# Altium footprint library Connector_Molex.PcbLib: 815 footprints (part 41 of 51)
Each footprint in its own frame and in the unit in brackets; x right, y up, seen from the top. Pads: shape width x height; smd on the part's side, far side on the other; paste and mask are expansions set on the pad; w line width, h text height; cw(c..) or ccw(c..) is an arc to the next point about the centre after c.
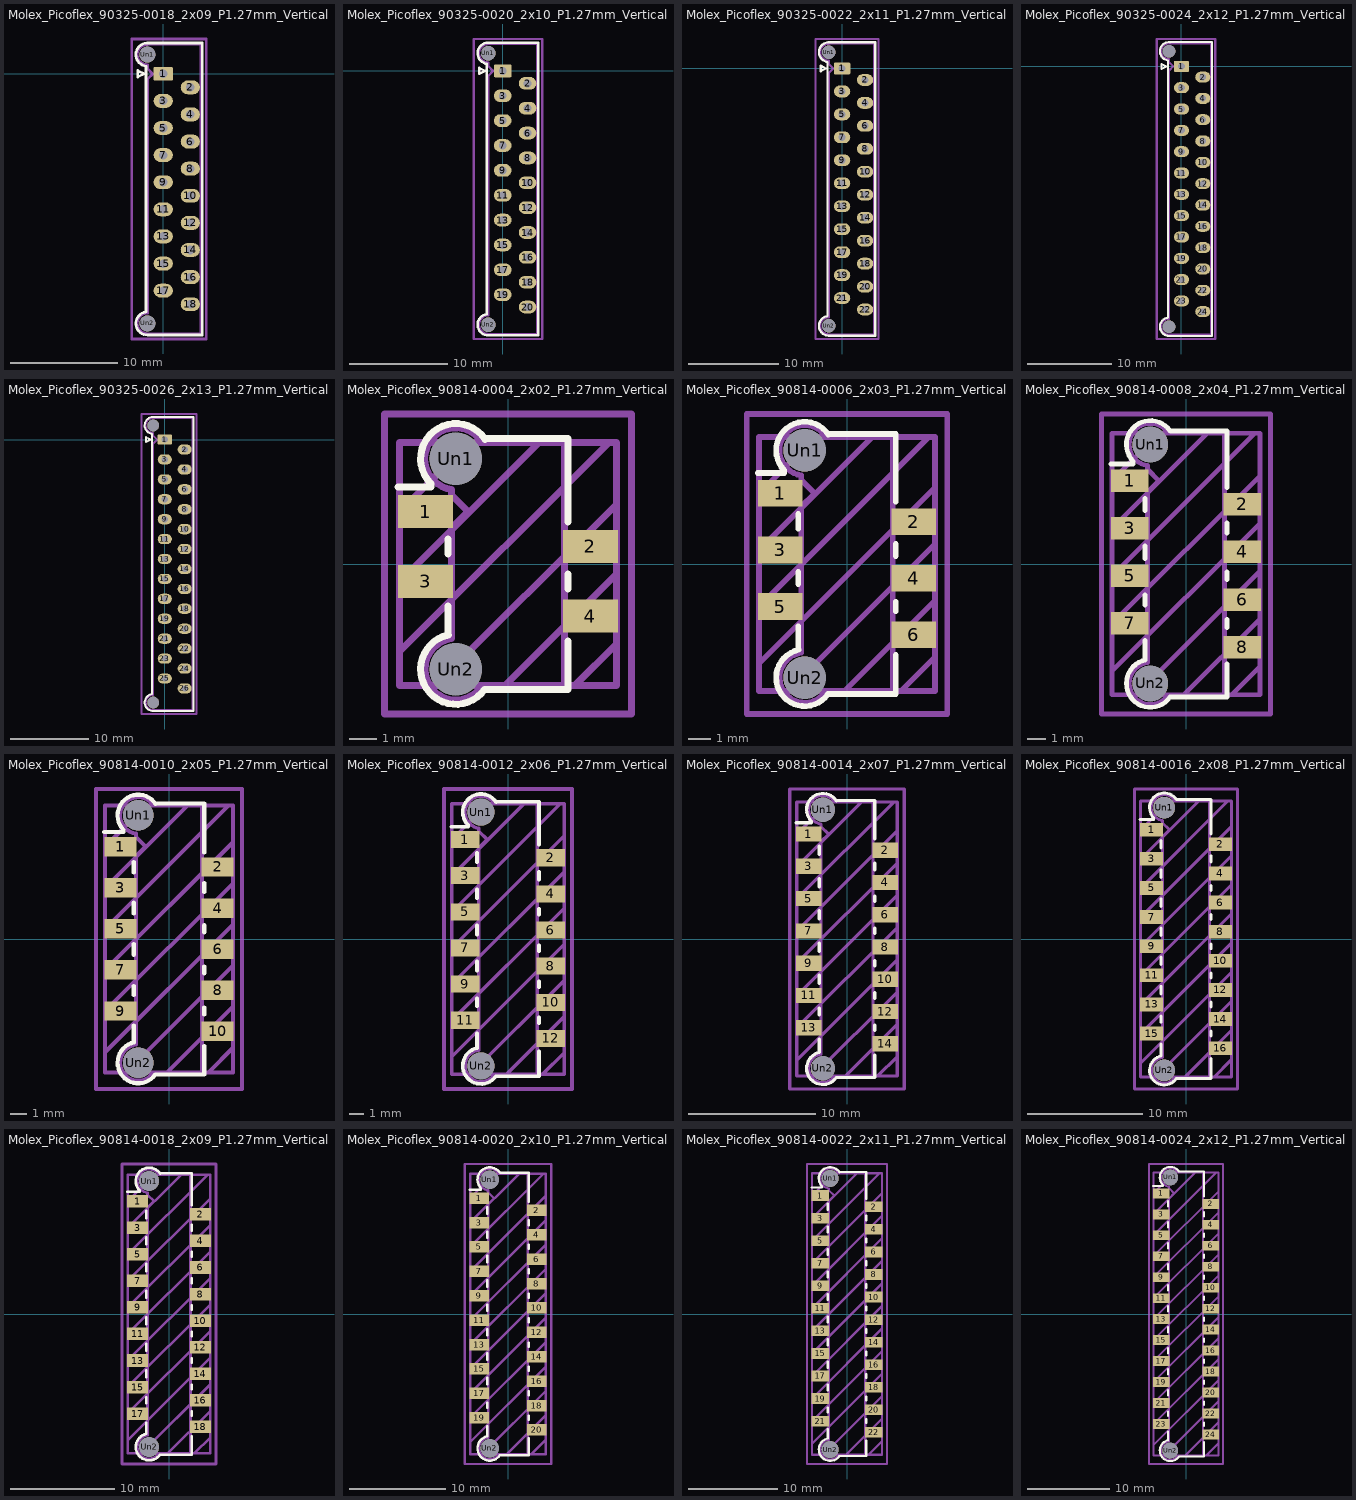
[diagram p40: the footprints below, top view; thin cyan lines are the x and y axes]

## Molex_Picoflex_90325-0018_2x09_P1.27mm_Vertical [mm]
pads (20):
  rrect19% 1.8x1.3 hole 0.8: 1(0,0)
  rrect100% 1.8x1.3 hole 0.8: 2(2.54,-1.27) 3(0,-2.54) 4(2.54,-3.81) 5(0,-5.08) 6(2.54,-6.35) 7(0,-7.62) 8(2.54,-8.89) 9(0,-10.16) 10(2.54,-11.43) 11(0,-12.7) 12(2.54,-13.97) 13(0,-15.24) 14(2.54,-16.51) 15(0,-17.78) 16(2.54,-19.05) 17(0,-20.32) 18(2.54,-21.59)
  round 1.5 hole 1.5: Un1(-1.48,1.8) Un2(-1.48,-23.39)
F.SilkS:
  lines w0.254: -1.678,-22.323 ccw(c-1.48,-23.39) -1.47,-24.475 ; -1.61,-22.305 -1.61,0.715 ; -1.61,0.72 cw(c-1.48,1.8) -1.35,2.88 ; -1.48,-24.475 3.65,-24.475 3.65,2.885 -1.48,2.885 ; -2.38,-0.3 -1.78,0 -2.38,0.3 -2.38,-0.3
Top Assembly:
  lines w0.254: -1.48,0.845 -1.48,0.5 -0.98,0 -1.48,-0.5 -1.48,-22.435 ccw(c-1.48,-23.39) -1.48,-24.345 3.52,-24.345 3.52,2.755 -1.48,2.755 ; -1.48,0.85 cw(c-1.48,1.8) -1.48,2.75
  text "'.Designator'" at -3.027,1.21 h1
Top Courtyard:
  lines w0.254: -2.94,-24.85 4.02,-24.85 4.02,3.26 -2.94,3.26 -2.94,-24.85
Top Designator:
  text ".Designator" at -6.748,-11.303 h1.52

## Molex_Picoflex_90325-0020_2x10_P1.27mm_Vertical [mm]
pads (22):
  rrect19% 1.8x1.3 hole 0.8: 1(0,0)
  rrect100% 1.8x1.3 hole 0.8: 2(2.54,-1.27) 3(0,-2.54) 4(2.54,-3.81) 5(0,-5.08) 6(2.54,-6.35) 7(0,-7.62) 8(2.54,-8.89) 9(0,-10.16) 10(2.54,-11.43) 11(0,-12.7) 12(2.54,-13.97) 13(0,-15.24) 14(2.54,-16.51) 15(0,-17.78) 16(2.54,-19.05) 17(0,-20.32) 18(2.54,-21.59) 19(0,-22.86) 20(2.54,-24.13)
  round 1.5 hole 1.5: Un1(-1.48,1.8) Un2(-1.48,-25.93)
F.SilkS:
  lines w0.254: -1.678,-24.863 ccw(c-1.48,-25.93) -1.47,-27.015 ; -1.61,-24.845 -1.61,0.715 ; -1.61,0.72 cw(c-1.48,1.8) -1.35,2.88 ; -1.48,-27.015 3.65,-27.015 3.65,2.885 -1.48,2.885 ; -2.38,-0.3 -1.78,0 -2.38,0.3 -2.38,-0.3
Top Assembly:
  lines w0.254: -1.48,0.845 -1.48,0.5 -0.98,0 -1.48,-0.5 -1.48,-24.975 ccw(c-1.48,-25.93) -1.48,-26.885 3.52,-26.885 3.52,2.755 -1.48,2.755 ; -1.48,0.85 cw(c-1.48,1.8) -1.48,2.75
  text "'.Designator'" at -3.027,1.21 h1
Top Courtyard:
  lines w0.254: -2.94,-27.39 4.02,-27.39 4.02,3.26 -2.94,3.26 -2.94,-27.39
Top Designator:
  text ".Designator" at -6.748,-12.573 h1.52

## Molex_Picoflex_90325-0022_2x11_P1.27mm_Vertical [mm]
pads (24):
  rrect19% 1.8x1.3 hole 0.8: 1(0,0)
  rrect100% 1.8x1.3 hole 0.8: 2(2.54,-1.27) 3(0,-2.54) 4(2.54,-3.81) 5(0,-5.08) 6(2.54,-6.35) 7(0,-7.62) 8(2.54,-8.89) 9(0,-10.16) 10(2.54,-11.43) 11(0,-12.7) 12(2.54,-13.97) 13(0,-15.24) 14(2.54,-16.51) 15(0,-17.78) 16(2.54,-19.05) 17(0,-20.32) 18(2.54,-21.59) 19(0,-22.86) 20(2.54,-24.13) 21(0,-25.4) 22(2.54,-26.67)
  round 1.5 hole 1.5: Un1(-1.48,1.8) Un2(-1.48,-28.47)
F.SilkS:
  lines w0.254: -1.678,-27.403 ccw(c-1.48,-28.47) -1.47,-29.555 ; -1.61,-27.385 -1.61,0.715 ; -1.61,0.72 cw(c-1.48,1.8) -1.35,2.88 ; -1.48,-29.555 3.65,-29.555 3.65,2.885 -1.48,2.885 ; -2.38,-0.3 -1.78,0 -2.38,0.3 -2.38,-0.3
Top Assembly:
  lines w0.254: -1.48,0.845 -1.48,0.5 -0.98,0 -1.48,-0.5 -1.48,-27.515 ccw(c-1.48,-28.47) -1.48,-29.425 3.52,-29.425 3.52,2.755 -1.48,2.755 ; -1.48,0.85 cw(c-1.48,1.8) -1.48,2.75
  text "'.Designator'" at -3.027,1.21 h1
Top Courtyard:
  lines w0.254: -2.94,-29.93 4.02,-29.93 4.02,3.26 -2.94,3.26 -2.94,-29.93
Top Designator:
  text ".Designator" at -6.748,-13.843 h1.52

## Molex_Picoflex_90325-0024_2x12_P1.27mm_Vertical [mm]
pads (26):
  rrect19% 1.8x1.3 hole 0.8: 1(0,0)
  rrect100% 1.8x1.3 hole 0.8: 2(2.54,-1.27) 3(0,-2.54) 4(2.54,-3.81) 5(0,-5.08) 6(2.54,-6.35) 7(0,-7.62) 8(2.54,-8.89) 9(0,-10.16) 10(2.54,-11.43) 11(0,-12.7) 12(2.54,-13.97) 13(0,-15.24) 14(2.54,-16.51) 15(0,-17.78) 16(2.54,-19.05) 17(0,-20.32) 18(2.54,-21.59) 19(0,-22.86) 20(2.54,-24.13) 21(0,-25.4) 22(2.54,-26.67) 23(0,-27.94) 24(2.54,-29.21)
  round 1.5 hole 1.5: Un1(-1.48,1.8) Un2(-1.48,-31.01)
F.SilkS:
  lines w0.254: -1.678,-29.943 ccw(c-1.48,-31.01) -1.47,-32.095 ; -1.61,-29.925 -1.61,0.715 ; -1.61,0.72 cw(c-1.48,1.8) -1.35,2.88 ; -1.48,-32.095 3.65,-32.095 3.65,2.885 -1.48,2.885 ; -2.38,-0.3 -1.78,0 -2.38,0.3 -2.38,-0.3
Top Assembly:
  lines w0.254: -1.48,0.845 -1.48,0.5 -0.98,0 -1.48,-0.5 -1.48,-30.055 ccw(c-1.48,-31.01) -1.48,-31.965 3.52,-31.965 3.52,2.755 -1.48,2.755 ; -1.48,0.85 cw(c-1.48,1.8) -1.48,2.75
  text "'.Designator'" at -3.027,1.21 h1
Top Courtyard:
  lines w0.254: -2.94,-32.47 4.02,-32.47 4.02,3.26 -2.94,3.26 -2.94,-32.47
Top Designator:
  text ".Designator" at -6.748,-15.113 h1.52

## Molex_Picoflex_90325-0026_2x13_P1.27mm_Vertical [mm]
pads (28):
  rrect19% 1.8x1.3 hole 0.8: 1(0,0)
  rrect100% 1.8x1.3 hole 0.8: 2(2.54,-1.27) 3(0,-2.54) 4(2.54,-3.81) 5(0,-5.08) 6(2.54,-6.35) 7(0,-7.62) 8(2.54,-8.89) 9(0,-10.16) 10(2.54,-11.43) 11(0,-12.7) 12(2.54,-13.97) 13(0,-15.24) 14(2.54,-16.51) 15(0,-17.78) 16(2.54,-19.05) 17(0,-20.32) 18(2.54,-21.59) 19(0,-22.86) 20(2.54,-24.13) 21(0,-25.4) 22(2.54,-26.67) 23(0,-27.94) 24(2.54,-29.21) 25(0,-30.48) 26(2.54,-31.75)
  round 1.5 hole 1.5: Un1(-1.48,1.8) Un2(-1.48,-33.55)
F.SilkS:
  lines w0.254: -1.678,-32.483 ccw(c-1.48,-33.55) -1.47,-34.635 ; -1.61,-32.465 -1.61,0.715 ; -1.61,0.72 cw(c-1.48,1.8) -1.35,2.88 ; -1.48,-34.635 3.65,-34.635 3.65,2.885 -1.48,2.885 ; -2.38,-0.3 -1.78,0 -2.38,0.3 -2.38,-0.3
Top Assembly:
  lines w0.254: -1.48,0.845 -1.48,0.5 -0.98,0 -1.48,-0.5 -1.48,-32.595 ccw(c-1.48,-33.55) -1.48,-34.505 3.52,-34.505 3.52,2.755 -1.48,2.755 ; -1.48,0.85 cw(c-1.48,1.8) -1.48,2.75
  text "'.Designator'" at -3.027,1.21 h1
Top Courtyard:
  lines w0.254: -2.94,-35.01 4.02,-35.01 4.02,3.26 -2.94,3.26 -2.94,-35.01
Top Designator:
  text ".Designator" at -6.748,-16.383 h1.52

## Molex_Picoflex_90814-0004_2x02_P1.27mm_Vertical [mm]
pads (6):
  rect 2x1.2 smd: 1(-3,1.91) 2(3,0.64) 3(-3,-0.63) 4(3,-1.9)
  round 1.9 hole 1.9: Un1(-1.9,3.83) Un2(-1.9,-3.83)
F.SilkS:
  lines w0.254: -4,2.8 -2.81,2.8 -2.81,2.93 cw(c-1.9,3.83) -0.835,4.54 ; -2.18,-2.58 -2.18,-1.53 ; -2.18,0.36 -2.18,0.91 ; -2.174,-2.581 ccw(c-1.9,-3.83) -0.85,-4.56 2.18,-4.56 2.18,-2.8 ; -0.82,4.56 2.18,4.56 2.18,1.53 ; 2.18,-0.91 2.18,-0.36
Top Assembly:
  lines w0.254: -2.051,-2.717 ccw(c-1.9,-3.83) -0.95,-4.43 2.05,-4.43 2.05,4.43 -0.93,4.43 ; -2.05,-2.71 -2.05,1.31 -1.45,1.91 -2.05,2.51 -2.05,2.71 cw(c-1.9,3.83) -0.946,4.435
  text "'.Designator'" at -0.51,-4.047 h1
Top Courtyard:
  lines w0.254: -4.5,-5.46 4.5,-5.46 4.5,5.46 -4.5,5.46 -4.5,-5.46
Top Designator:
  text ".Designator" at -7.618,-0.508 h1.52
Dwgs.User:
  lines w0.254: -3.95,-3.19 3.67,4.43 ; -3.95,-0.65 1.13,4.43 ; -3.95,1.89 -1.41,4.43 ; -2.65,-4.43 3.95,2.17 ; -0.11,-4.43 3.95,-0.37 ; 2.43,-4.43 3.95,-2.91 ; -3.95,-4.43 3.95,-4.43 3.95,4.43 -3.95,4.43 -3.95,-4.43
Cmts.User:
  text "KEEPOUT" at 0.65,-3.128 h1

## Molex_Picoflex_90814-0006_2x03_P1.27mm_Vertical [mm]
pads (8):
  rect 2x1.2 smd: 1(-3,3.17) 2(3,1.9) 3(-3,0.63) 4(3,-0.64) 5(-3,-1.91) 6(3,-3.18)
  round 1.9 hole 1.9: Un1(-1.9,5.1) Un2(-1.9,-5.1)
F.SilkS:
  lines w0.254: -4,4.08 -2.81,4.08 -2.81,4.2 cw(c-1.9,5.1) -0.835,5.81 ; -2.18,-3.85 -2.18,-2.8 ; -2.18,-0.9 -2.18,-0.36 ; -2.18,1.58 -2.18,2.24 ; -2.174,-3.851 ccw(c-1.9,-5.1) -0.85,-5.83 2.18,-5.83 2.18,-4.08 ; -0.82,5.83 2.18,5.83 2.18,2.8 ; 2.18,-2.12 2.18,-1.7 ; 2.18,0.36 2.18,0.9
Top Assembly:
  lines w0.254: -2.051,-3.987 ccw(c-1.9,-5.1) -0.95,-5.7 2.05,-5.7 2.05,5.7 -0.93,5.7 ; -2.05,-3.98 -2.05,2.57 -1.45,3.17 -2.05,3.77 -2.05,3.98 cw(c-1.9,5.1) -0.946,5.705
  text "'.Designator'" at -0.51,-4.047 h1
Top Courtyard:
  lines w0.254: -4.5,-6.73 4.5,-6.73 4.5,6.73 -4.5,6.73 -4.5,-6.73
Top Designator:
  text ".Designator" at -7.618,-0.508 h1.52
Dwgs.User:
  lines w0.254: -3.95,-4.46 3.95,3.44 ; -3.95,-1.92 3.67,5.7 ; -3.95,0.62 1.13,5.7 ; -3.95,3.16 -1.41,5.7 ; -2.65,-5.7 3.95,0.9 ; -0.11,-5.7 3.95,-1.64 ; 2.43,-5.7 3.95,-4.18 ; -3.95,-5.7 3.95,-5.7 3.95,5.7 -3.95,5.7 -3.95,-5.7
Cmts.User:
  text "KEEPOUT" at 0.65,-3.128 h1

## Molex_Picoflex_90814-0008_2x04_P1.27mm_Vertical [mm]
pads (10):
  rect 2x1.2 smd: 1(-3,4.45) 2(3,3.18) 3(-3,1.91) 4(3,0.64) 5(-3,-0.63) 6(3,-1.9) 7(-3,-3.17) 8(3,-4.44)
  round 1.9 hole 1.9: Un1(-1.9,6.37) Un2(-1.9,-6.37)
F.SilkS:
  lines w0.254: -4,5.34 -2.81,5.34 -2.81,5.47 cw(c-1.9,6.37) -0.835,7.08 ; -2.18,-5.12 -2.18,-4.08 ; -2.18,-2.18 -2.18,-1.64 ; -2.18,0.3 -2.18,0.96 ; -2.18,2.84 -2.18,3.5 ; -2.174,-5.121 ccw(c-1.9,-6.37) -0.85,-7.1 2.18,-7.1 2.18,-5.34 ; -0.82,7.1 2.18,7.1 2.18,4.08 ; 2.18,-3.38 2.18,-2.96 ; 2.18,-0.84 2.18,-0.42 ; 2.18,1.64 2.18,2.18
Top Assembly:
  lines w0.254: -2.051,-5.257 ccw(c-1.9,-6.37) -0.95,-6.97 2.05,-6.97 2.05,6.97 -0.93,6.97 ; -2.05,-5.25 -2.05,3.85 -1.45,4.45 -2.05,5.04 -2.05,5.25 cw(c-1.9,6.37) -0.946,6.975
  text "'.Designator'" at -0.51,-4.047 h1
Top Courtyard:
  lines w0.254: -4.5,-8 4.5,-8 4.5,8 -4.5,8 -4.5,-8
Top Designator:
  text ".Designator" at -7.618,-0.508 h1.52
Dwgs.User:
  lines w0.254: -3.95,-5.73 3.95,2.17 ; -3.95,-3.19 3.95,4.71 ; -3.95,-0.65 3.67,6.97 ; -3.95,1.89 1.13,6.97 ; -3.95,4.43 -1.41,6.97 ; -2.65,-6.97 3.95,-0.37 ; -0.11,-6.97 3.95,-2.91 ; 2.43,-6.97 3.95,-5.45 ; -3.95,-6.97 3.95,-6.97 3.95,6.97 -3.95,6.97 -3.95,-6.97
Cmts.User:
  text "KEEPOUT" at 0.65,-3.128 h1

## Molex_Picoflex_90814-0010_2x05_P1.27mm_Vertical [mm]
pads (12):
  rect 2x1.2 smd: 1(-3,5.71) 2(3,4.45) 3(-3,3.17) 4(3,1.91) 5(-3,0.63) 6(3,-0.63) 7(-3,-1.91) 8(3,-3.17) 9(-3,-4.45) 10(3,-5.71)
  round 1.9 hole 1.9: Un1(-1.9,7.64) Un2(-1.9,-7.64)
F.SilkS:
  lines w0.254: -4,6.61 -2.81,6.61 -2.81,6.74 cw(c-1.9,7.64) -0.835,8.35 ; -2.18,-6.39 -2.18,-5.34 ; -2.18,-3.45 -2.18,-2.9 ; -2.18,-0.97 -2.18,-0.3 ; -2.18,1.57 -2.18,2.24 ; -2.18,4.12 -2.18,4.77 ; -2.174,-6.391 ccw(c-1.9,-7.64) -0.85,-8.37 2.18,-8.37 2.18,-6.61 ; -0.82,8.37 2.18,8.37 2.18,5.34 ; 2.18,-4.66 2.18,-4.23 ; 2.18,-2.12 2.18,-1.69 ; 2.18,0.42 2.18,0.85 ; 2.18,2.9 2.18,3.45
Top Assembly:
  lines w0.254: -2.051,-6.527 ccw(c-1.9,-7.64) -0.95,-8.24 2.05,-8.24 2.05,8.24 -0.93,8.24 ; -2.05,-6.52 -2.05,5.12 -1.45,5.71 -2.05,6.31 -2.05,6.52 cw(c-1.9,7.64) -0.946,8.245
  text "'.Designator'" at -0.51,-4.047 h1
Top Courtyard:
  lines w0.254: -4.5,-9.27 4.5,-9.27 4.5,9.27 -4.5,9.27 -4.5,-9.27
Top Designator:
  text ".Designator" at -7.618,-0.508 h1.52
Dwgs.User:
  lines w0.254: -3.95,-7 3.95,0.9 ; -3.95,-4.46 3.95,3.44 ; -3.95,-1.92 3.95,5.98 ; -3.95,0.62 3.67,8.24 ; -3.95,3.16 1.13,8.24 ; -3.95,5.7 -1.41,8.24 ; -2.65,-8.24 3.95,-1.64 ; -0.11,-8.24 3.95,-4.18 ; 2.43,-8.24 3.95,-6.72 ; -3.95,-8.24 3.95,-8.24 3.95,8.24 -3.95,8.24 -3.95,-8.24
Cmts.User:
  text "KEEPOUT" at 0.65,-3.128 h1

## Molex_Picoflex_90814-0012_2x06_P1.27mm_Vertical [mm]
pads (14):
  rect 2x1.2 smd: 1(-3,6.99) 2(3,5.71) 3(-3,4.45) 4(3,3.17) 5(-3,1.91) 6(3,0.63) 7(-3,-0.63) 8(3,-1.91) 9(-3,-3.17) 10(3,-4.45) 11(-3,-5.71) 12(3,-6.99)
  round 1.9 hole 1.9: Un1(-1.9,8.91) Un2(-1.9,-8.91)
F.SilkS:
  lines w0.254: -4,7.88 -2.81,7.88 -2.81,8.01 cw(c-1.9,8.91) -0.835,9.62 ; -2.18,-7.66 -2.18,-6.61 ; -2.18,-4.71 -2.18,-4.18 ; -2.18,-2.23 -2.18,-1.58 ; -2.18,0.31 -2.18,0.96 ; -2.18,2.85 -2.18,3.5 ; -2.18,5.39 -2.18,6.04 ; -2.174,-7.661 ccw(c-1.9,-8.91) -0.85,-9.64 2.18,-9.64 2.18,-7.88 ; -0.82,9.64 2.18,9.64 2.18,6.61 ; 2.18,-5.92 2.18,-5.5 ; 2.18,-3.38 2.18,-2.97 ; 2.18,-0.84 2.18,-0.43 ; 2.18,1.7 2.18,2.11 ; 2.18,4.18 2.18,4.71
Top Assembly:
  lines w0.254: -2.051,-7.797 ccw(c-1.9,-8.91) -0.95,-9.51 2.05,-9.51 2.05,9.51 -0.93,9.51 ; -2.05,-7.79 -2.05,6.39 -1.45,6.99 -2.05,7.58 -2.05,7.79 cw(c-1.9,8.91) -0.946,9.515
  text "'.Designator'" at -0.51,-4.047 h1
Top Courtyard:
  lines w0.254: -4.5,-10.54 4.5,-10.54 4.5,10.54 -4.5,10.54 -4.5,-10.54
Top Designator:
  text ".Designator" at -7.618,-0.508 h1.52
Dwgs.User:
  lines w0.254: -3.95,-8.27 3.95,-0.37 ; -3.95,-5.73 3.95,2.17 ; -3.95,-3.19 3.95,4.71 ; -3.95,-0.65 3.95,7.25 ; -3.95,1.89 3.67,9.51 ; -3.95,4.43 1.13,9.51 ; -3.95,6.97 -1.41,9.51 ; -2.65,-9.51 3.95,-2.91 ; -0.11,-9.51 3.95,-5.45 ; 2.43,-9.51 3.95,-7.99 ; -3.95,-9.51 3.95,-9.51 3.95,9.51 -3.95,9.51 -3.95,-9.51
Cmts.User:
  text "KEEPOUT" at 0.65,-3.128 h1

## Molex_Picoflex_90814-0014_2x07_P1.27mm_Vertical [mm]
pads (16):
  rect 2x1.2 smd: 1(-3,8.26) 2(3,6.99) 3(-3,5.72) 4(3,4.45) 5(-3,3.18) 6(3,1.91) 7(-3,0.64) 8(3,-0.63) 9(-3,-1.9) 10(3,-3.17) 11(-3,-4.44) 12(3,-5.71) 13(-3,-6.98) 14(3,-8.25)
  round 1.9 hole 1.9: Un1(-1.9,10.18) Un2(-1.9,-10.18)
F.SilkS:
  lines w0.254: -4,9.16 -2.81,9.16 -2.81,9.28 cw(c-1.9,10.18) -0.835,10.89 ; -2.18,-8.93 -2.18,-7.89 ; -2.18,-5.99 -2.18,-5.45 ; -2.18,-3.51 -2.18,-2.85 ; -2.18,-0.97 -2.18,-0.31 ; -2.18,1.57 -2.18,2.23 ; -2.18,4.11 -2.18,4.77 ; -2.18,6.65 -2.18,7.31 ; -2.174,-8.931 ccw(c-1.9,-10.18) -0.85,-10.91 2.18,-10.91 2.18,-9.16 ; -0.82,10.91 2.18,10.91 2.18,7.89 ; 2.18,-7.2 2.18,-6.77 ; 2.18,-4.66 2.18,-4.23 ; 2.18,-2.11 2.18,-1.69 ; 2.18,0.43 2.18,0.85 ; 2.18,2.97 2.18,3.39 ; 2.18,5.45 2.18,5.99
Top Assembly:
  lines w0.254: -2.051,-9.067 ccw(c-1.9,-10.18) -0.95,-10.78 2.05,-10.78 2.05,10.78 -0.93,10.78 ; -2.05,-9.06 -2.05,7.66 -1.45,8.26 -2.05,8.86 -2.05,9.06 cw(c-1.9,10.18) -0.946,10.785
  text "'.Designator'" at -0.51,-4.047 h1
Top Courtyard:
  lines w0.254: -4.5,-11.81 4.5,-11.81 4.5,11.81 -4.5,11.81 -4.5,-11.81
Top Designator:
  text ".Designator" at -7.618,-0.508 h1.52
Dwgs.User:
  lines w0.254: -3.95,-9.54 3.95,-1.64 ; -3.95,-7 3.95,0.9 ; -3.95,-4.46 3.95,3.44 ; -3.95,-1.92 3.95,5.98 ; -3.95,0.62 3.95,8.52 ; -3.95,3.16 3.67,10.78 ; -3.95,5.7 1.13,10.78 ; -3.95,8.24 -1.41,10.78 ; -2.65,-10.78 3.95,-4.18 ; -0.11,-10.78 3.95,-6.72 ; 2.43,-10.78 3.95,-9.26 ; -3.95,-10.78 3.95,-10.78 3.95,10.78 -3.95,10.78 -3.95,-10.78
Cmts.User:
  text "KEEPOUT" at 0.65,-3.128 h1

## Molex_Picoflex_90814-0016_2x08_P1.27mm_Vertical [mm]
pads (18):
  rect 2x1.2 smd: 1(-3,9.53) 2(3,8.26) 3(-3,6.99) 4(3,5.72) 5(-3,4.45) 6(3,3.18) 7(-3,1.91) 8(3,0.64) 9(-3,-0.63) 10(3,-1.9) 11(-3,-3.17) 12(3,-4.44) 13(-3,-5.71) 14(3,-6.98) 15(-3,-8.25) 16(3,-9.52)
  round 1.9 hole 1.9: Un1(-1.9,11.45) Un2(-1.9,-11.45)
F.SilkS:
  lines w0.254: -4,10.43 -2.81,10.43 -2.81,10.55 cw(c-1.9,11.45) -0.835,12.16 ; -2.18,-10.2 -2.18,-9.16 ; -2.18,-7.26 -2.18,-6.71 ; -2.18,-4.78 -2.18,-4.12 ; -2.18,-2.24 -2.18,-1.57 ; -2.18,0.3 -2.18,0.97 ; -2.18,2.84 -2.18,3.51 ; -2.18,5.38 -2.18,6.04 ; -2.18,7.92 -2.18,8.59 ; -2.174,-10.201 ccw(c-1.9,-11.45) -0.85,-12.18 2.18,-12.18 2.18,-10.43 ; -0.82,12.18 2.18,12.18 2.18,9.16 ; 2.18,-8.46 2.18,-8.04 ; 2.18,-5.93 2.18,-5.5 ; 2.18,-3.39 2.18,-2.96 ; 2.18,-0.85 2.18,-0.42 ; 2.18,1.69 2.18,2.12 ; 2.18,4.23 2.18,4.66 ; 2.18,6.71 2.18,7.26
Top Assembly:
  lines w0.254: -2.051,-10.337 ccw(c-1.9,-11.45) -0.95,-12.05 2.05,-12.05 2.05,12.05 -0.93,12.05 ; -2.05,-10.33 -2.05,8.93 -1.45,9.53 -2.05,10.12 -2.05,10.33 cw(c-1.9,11.45) -0.946,12.055
  text "'.Designator'" at -0.51,-4.047 h1
Top Courtyard:
  lines w0.254: -4.5,-13.08 4.5,-13.08 4.5,13.08 -4.5,13.08 -4.5,-13.08
Top Designator:
  text ".Designator" at -7.618,-0.508 h1.52
Dwgs.User:
  lines w0.254: -3.95,-10.81 3.95,-2.91 ; -3.95,-8.27 3.95,-0.37 ; -3.95,-5.73 3.95,2.17 ; -3.95,-3.19 3.95,4.71 ; -3.95,-0.65 3.95,7.25 ; -3.95,1.89 3.95,9.79 ; -3.95,4.43 3.67,12.05 ; -3.95,6.97 1.13,12.05 ; -3.95,9.51 -1.41,12.05 ; -2.65,-12.05 3.95,-5.45 ; -0.11,-12.05 3.95,-7.99 ; 2.43,-12.05 3.95,-10.53 ; -3.95,-12.05 3.95,-12.05 3.95,12.05 -3.95,12.05 -3.95,-12.05
Cmts.User:
  text "KEEPOUT" at 0.65,-3.128 h1

## Molex_Picoflex_90814-0018_2x09_P1.27mm_Vertical [mm]
pads (20):
  rect 2x1.2 smd: 1(-3,10.79) 2(3,9.53) 3(-3,8.25) 4(3,6.99) 5(-3,5.71) 6(3,4.45) 7(-3,3.17) 8(3,1.91) 9(-3,0.63) 10(3,-0.63) 11(-3,-1.91) 12(3,-3.17) 13(-3,-4.45) 14(3,-5.71) 15(-3,-6.99) 16(3,-8.25) 17(-3,-9.53) 18(3,-10.79)
  round 1.9 hole 1.9: Un1(-1.9,12.72) Un2(-1.9,-12.72)
F.SilkS:
  lines w0.254: -4,11.7 -2.81,11.7 -2.81,11.82 cw(c-1.9,12.72) -0.835,13.43 ; -2.18,-11.47 -2.18,-10.43 ; -2.18,-8.53 -2.18,-7.98 ; -2.18,-6.04 -2.18,-5.38 ; -2.18,-3.51 -2.18,-2.84 ; -2.18,-0.97 -2.18,-0.3 ; -2.18,1.57 -2.18,2.24 ; -2.18,4.12 -2.18,4.78 ; -2.18,6.66 -2.18,7.32 ; -2.18,9.19 -2.18,9.86 ; -2.174,-11.471 ccw(c-1.9,-12.72) -0.85,-13.45 2.18,-13.45 2.18,-11.7 ; -0.82,13.45 2.18,13.45 2.18,10.43 ; 2.18,-9.74 2.18,-9.31 ; 2.18,-7.2 2.18,-6.77 ; 2.18,-4.66 2.18,-4.23 ; 2.18,-2.12 2.18,-1.69 ; 2.18,0.42 2.18,0.85 ; 2.18,2.96 2.18,3.39 ; 2.18,5.5 2.18,5.93 ; 2.18,7.98 2.18,8.53
Top Assembly:
  lines w0.254: -2.051,-11.607 ccw(c-1.9,-12.72) -0.95,-13.32 2.05,-13.32 2.05,13.32 -0.93,13.32 ; -2.05,-11.6 -2.05,10.2 -1.45,10.79 -2.05,11.39 -2.05,11.6 cw(c-1.9,12.72) -0.946,13.325
  text "'.Designator'" at -0.51,-4.047 h1
Top Courtyard:
  lines w0.254: -4.5,-14.35 4.5,-14.35 4.5,14.35 -4.5,14.35 -4.5,-14.35
Top Designator:
  text ".Designator" at -7.618,-0.508 h1.52
Dwgs.User:
  lines w0.254: -3.95,-12.08 3.95,-4.18 ; -3.95,-9.54 3.95,-1.64 ; -3.95,-7 3.95,0.9 ; -3.95,-4.46 3.95,3.44 ; -3.95,-1.92 3.95,5.98 ; -3.95,0.62 3.95,8.52 ; -3.95,3.16 3.95,11.06 ; -3.95,5.7 3.67,13.32 ; -3.95,8.24 1.13,13.32 ; -3.95,10.78 -1.41,13.32 ; -2.65,-13.32 3.95,-6.72 ; -0.11,-13.32 3.95,-9.26 ; 2.43,-13.32 3.95,-11.8 ; -3.95,-13.32 3.95,-13.32 3.95,13.32 -3.95,13.32 -3.95,-13.32
Cmts.User:
  text "KEEPOUT" at 0.65,-3.128 h1

## Molex_Picoflex_90814-0020_2x10_P1.27mm_Vertical [mm]
pads (22):
  rect 2x1.2 smd: 1(-3,12.06) 2(3,10.79) 3(-3,9.52) 4(3,8.25) 5(-3,6.98) 6(3,5.71) 7(-3,4.44) 8(3,3.17) 9(-3,1.9) 10(3,0.63) 11(-3,-0.64) 12(3,-1.91) 13(-3,-3.18) 14(3,-4.45) 15(-3,-5.72) 16(3,-6.99) 17(-3,-8.26) 18(3,-9.53) 19(-3,-10.8) 20(3,-12.07)
  round 1.9 hole 1.9: Un1(-1.9,13.99) Un2(-1.9,-13.99)
F.SilkS:
  lines w0.254: -4,12.96 -2.81,12.96 -2.81,13.09 cw(c-1.9,13.99) -0.835,14.7 ; -2.18,-12.74 -2.18,-11.7 ; -2.18,-9.79 -2.18,-9.25 ; -2.18,-7.31 -2.18,-6.65 ; -2.18,-4.77 -2.18,-4.11 ; -2.18,-2.23 -2.18,-1.57 ; -2.18,0.31 -2.18,0.97 ; -2.18,2.85 -2.18,3.51 ; -2.18,5.39 -2.18,6.05 ; -2.18,7.93 -2.18,8.59 ; -2.18,10.46 -2.18,11.13 ; -2.174,-12.741 ccw(c-1.9,-13.99) -0.85,-14.72 2.18,-14.72 2.18,-12.96 ; -0.82,14.72 2.18,14.72 2.18,11.7 ; 2.18,-11.01 2.18,-10.59 ; 2.18,-8.47 2.18,-8.04 ; 2.18,-5.93 2.18,-5.5 ; 2.18,-3.39 2.18,-2.97 ; 2.18,-0.85 2.18,-0.43 ; 2.18,1.69 2.18,2.11 ; 2.18,4.23 2.18,4.66 ; 2.18,6.77 2.18,7.2 ; 2.18,9.25 2.18,9.79
Top Assembly:
  lines w0.254: -2.051,-12.877 ccw(c-1.9,-13.99) -0.95,-14.59 2.05,-14.59 2.05,14.59 -0.93,14.59 ; -2.05,-12.87 -2.05,11.46 -1.45,12.06 -2.05,12.66 -2.05,12.87 cw(c-1.9,13.99) -0.946,14.595
  text "'.Designator'" at -0.51,-4.047 h1
Top Courtyard:
  lines w0.254: -4.5,-15.62 4.5,-15.62 4.5,15.62 -4.5,15.62 -4.5,-15.62
Top Designator:
  text ".Designator" at -7.618,-0.508 h1.52
Dwgs.User:
  lines w0.254: -3.95,-13.35 3.95,-5.45 ; -3.95,-10.81 3.95,-2.91 ; -3.95,-8.27 3.95,-0.37 ; -3.95,-5.73 3.95,2.17 ; -3.95,-3.19 3.95,4.71 ; -3.95,-0.65 3.95,7.25 ; -3.95,1.89 3.95,9.79 ; -3.95,4.43 3.95,12.33 ; -3.95,6.97 3.67,14.59 ; -3.95,9.51 1.13,14.59 ; -3.95,12.05 -1.41,14.59 ; -2.65,-14.59 3.95,-7.99 ; -0.11,-14.59 3.95,-10.53 ; 2.43,-14.59 3.95,-13.07 ; -3.95,-14.59 3.95,-14.59 3.95,14.59 -3.95,14.59 -3.95,-14.59
Cmts.User:
  text "KEEPOUT" at 0.65,-3.128 h1

## Molex_Picoflex_90814-0022_2x11_P1.27mm_Vertical [mm]
pads (24):
  rect 2x1.2 smd: 1(-3,13.34) 2(3,12.07) 3(-3,10.8) 4(3,9.53) 5(-3,8.26) 6(3,6.99) 7(-3,5.72) 8(3,4.45) 9(-3,3.18) 10(3,1.91) 11(-3,0.64) 12(3,-0.63) 13(-3,-1.9) 14(3,-3.17) 15(-3,-4.44) 16(3,-5.71) 17(-3,-6.98) 18(3,-8.25) 19(-3,-9.52) 20(3,-10.79) 21(-3,-12.06) 22(3,-13.33)
  round 1.9 hole 1.9: Un1(-1.9,15.26) Un2(-1.9,-15.26)
F.SilkS:
  lines w0.254: -4,14.24 -2.81,14.24 -2.81,14.36 cw(c-1.9,15.26) -0.835,15.97 ; -2.18,-14.01 -2.18,-12.97 ; -2.18,-11.07 -2.18,-10.53 ; -2.18,-8.59 -2.18,-7.93 ; -2.18,-6.05 -2.18,-5.39 ; -2.18,-3.51 -2.18,-2.85 ; -2.18,-0.97 -2.18,-0.31 ; -2.18,1.57 -2.18,2.23 ; -2.18,4.11 -2.18,4.77 ; -2.18,6.65 -2.18,7.31 ; -2.18,9.19 -2.18,9.86 ; -2.18,11.73 -2.18,12.4 ; -2.174,-14.011 ccw(c-1.9,-15.26) -0.85,-15.99 2.18,-15.99 2.18,-14.24 ; -0.82,15.99 2.18,15.99 2.18,12.97 ; 2.18,-12.28 2.18,-11.85 ; 2.18,-9.73 2.18,-9.31 ; 2.18,-7.2 2.18,-6.77 ; 2.18,-4.66 2.18,-4.23 ; 2.18,-2.11 2.18,-1.69 ; 2.18,0.43 2.18,0.85 ; 2.18,2.97 2.18,3.39 ; 2.18,5.5 2.18,5.93 ; 2.18,8.04 2.18,8.47 ; 2.18,10.53 2.18,11.07
Top Assembly:
  lines w0.254: -2.051,-14.147 ccw(c-1.9,-15.26) -0.95,-15.86 2.05,-15.86 2.05,15.86 -0.93,15.86 ; -2.05,-14.14 -2.05,12.74 -1.45,13.34 -2.05,13.94 -2.05,14.14 cw(c-1.9,15.26) -0.946,15.865
  text "'.Designator'" at -0.51,-4.047 h1
Top Courtyard:
  lines w0.254: -4.5,-16.89 4.5,-16.89 4.5,16.89 -4.5,16.89 -4.5,-16.89
Top Designator:
  text ".Designator" at -7.618,-0.508 h1.52
Dwgs.User:
  lines w0.254: -3.95,-14.62 3.95,-6.72 ; -3.95,-12.08 3.95,-4.18 ; -3.95,-9.54 3.95,-1.64 ; -3.95,-7 3.95,0.9 ; -3.95,-4.46 3.95,3.44 ; -3.95,-1.92 3.95,5.98 ; -3.95,0.62 3.95,8.52 ; -3.95,3.16 3.95,11.06 ; -3.95,5.7 3.95,13.6 ; -3.95,8.24 3.67,15.86 ; -3.95,10.78 1.13,15.86 ; -3.95,13.32 -1.41,15.86 ; -2.65,-15.86 3.95,-9.26 ; -0.11,-15.86 3.95,-11.8 ; 2.43,-15.86 3.95,-14.34 ; -3.95,-15.86 3.95,-15.86 3.95,15.86 -3.95,15.86 -3.95,-15.86
Cmts.User:
  text "KEEPOUT" at 0.65,-3.128 h1

## Molex_Picoflex_90814-0024_2x12_P1.27mm_Vertical [mm]
pads (26):
  rect 2x1.2 smd: 1(-3,14.61) 2(3,13.34) 3(-3,12.07) 4(3,10.8) 5(-3,9.53) 6(3,8.26) 7(-3,6.99) 8(3,5.72) 9(-3,4.45) 10(3,3.18) 11(-3,1.91) 12(3,0.64) 13(-3,-0.63) 14(3,-1.9) 15(-3,-3.17) 16(3,-4.44) 17(-3,-5.71) 18(3,-6.98) 19(-3,-8.25) 20(3,-9.52) 21(-3,-10.79) 22(3,-12.06) 23(-3,-13.33) 24(3,-14.6)
  round 1.9 hole 1.9: Un1(-1.9,16.53) Un2(-1.9,-16.53)
F.SilkS:
  lines w0.254: -4,15.51 -2.81,15.51 -2.81,15.63 cw(c-1.9,16.53) -0.835,17.24 ; -2.18,-15.28 -2.18,-14.24 ; -2.18,-12.34 -2.18,-11.79 ; -2.18,-9.86 -2.18,-9.19 ; -2.18,-7.32 -2.18,-6.65 ; -2.18,-4.78 -2.18,-4.11 ; -2.18,-2.24 -2.18,-1.57 ; -2.18,0.3 -2.18,0.97 ; -2.18,2.84 -2.18,3.51 ; -2.18,5.38 -2.18,6.05 ; -2.18,7.92 -2.18,8.59 ; -2.18,10.46 -2.18,11.13 ; -2.18,13 -2.18,13.67 ; -2.174,-15.281 ccw(c-1.9,-16.53) -0.85,-17.26 2.18,-17.26 2.18,-15.51 ; -0.82,17.26 2.18,17.26 2.18,14.24 ; 2.18,-13.54 2.18,-13.12 ; 2.18,-11.01 2.18,-10.58 ; 2.18,-8.47 2.18,-8.04 ; 2.18,-5.93 2.18,-5.5 ; 2.18,-3.39 2.18,-2.96 ; 2.18,-0.85 2.18,-0.42 ; 2.18,1.69 2.18,2.12 ; 2.18,4.23 2.18,4.66 ; 2.18,6.77 2.18,7.2 ; 2.18,9.31 2.18,9.74 ; 2.18,11.79 2.18,12.34
Top Assembly:
  lines w0.254: -2.051,-15.417 ccw(c-1.9,-16.53) -0.95,-17.13 2.05,-17.13 2.05,17.13 -0.93,17.13 ; -2.05,-15.41 -2.05,14.01 -1.45,14.61 -2.05,15.21 -2.05,15.41 cw(c-1.9,16.53) -0.946,17.135
  text "'.Designator'" at -0.51,-4.047 h1
Top Courtyard:
  lines w0.254: -4.5,-18.16 4.5,-18.16 4.5,18.16 -4.5,18.16 -4.5,-18.16
Top Designator:
  text ".Designator" at -7.618,-0.508 h1.52
Dwgs.User:
  lines w0.254: -3.95,-15.89 3.95,-7.99 ; -3.95,-13.35 3.95,-5.45 ; -3.95,-10.81 3.95,-2.91 ; -3.95,-8.27 3.95,-0.37 ; -3.95,-5.73 3.95,2.17 ; -3.95,-3.19 3.95,4.71 ; -3.95,-0.65 3.95,7.25 ; -3.95,1.89 3.95,9.79 ; -3.95,4.43 3.95,12.33 ; -3.95,6.97 3.95,14.87 ; -3.95,9.51 3.67,17.13 ; -3.95,12.05 1.13,17.13 ; -3.95,14.59 -1.41,17.13 ; -2.65,-17.13 3.95,-10.53 ; -0.11,-17.13 3.95,-13.07 ; 2.43,-17.13 3.95,-15.61 ; -3.95,-17.13 3.95,-17.13 3.95,17.13 -3.95,17.13 -3.95,-17.13
Cmts.User:
  text "KEEPOUT" at 0.65,-3.128 h1